# Altium footprint library Synthiam.PcbLib: 481 footprints (part 5 of 31)
Each footprint in its own frame and in the unit in brackets; x right, y up, seen from the top. Pads: shape width x height; smd on the part's side, far side on the other; paste and mask are expansions set on the pad; w line width, h text height; cw(c..) or ccw(c..) is an arc to the next point about the centre after c.
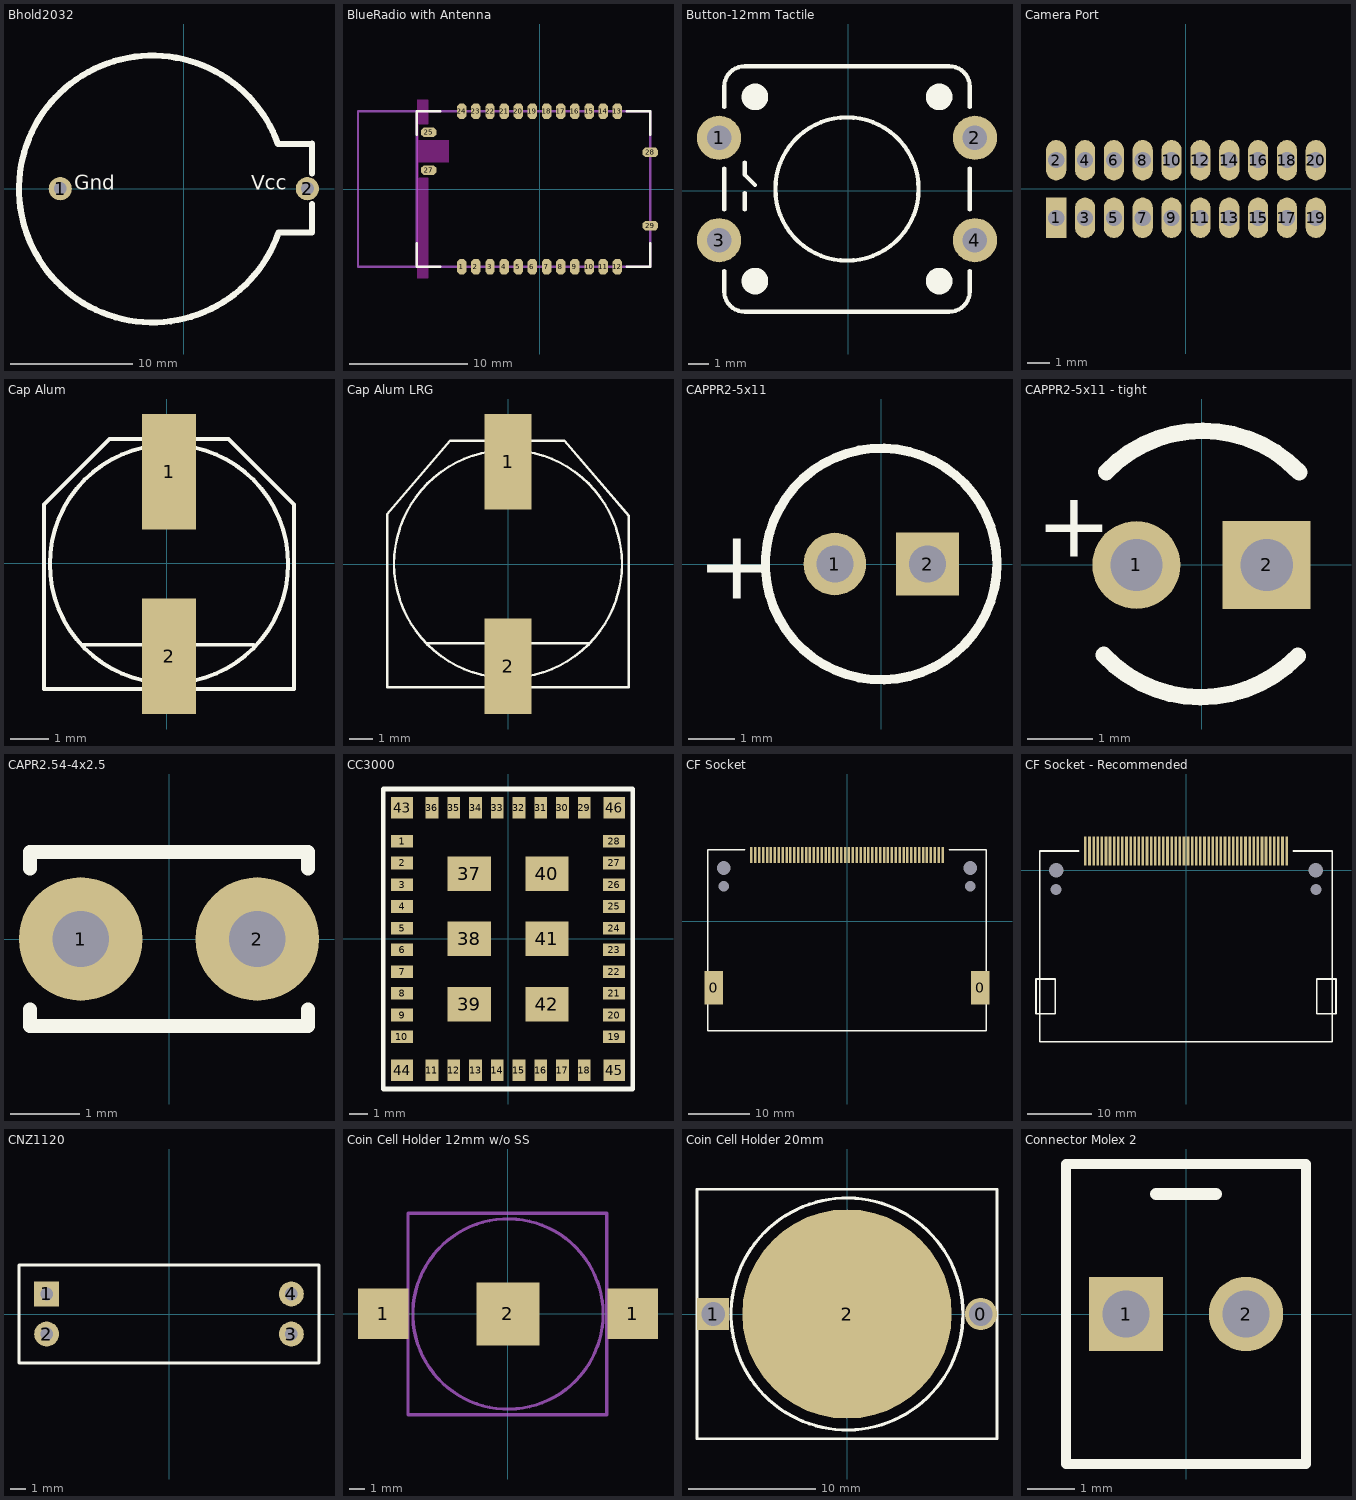
[diagram p4: the footprints below, top view; thin cyan lines are the x and y axes]

## Bhold2032 [mil] "CR2032 small footprint battery holder"
pads (2):
  round 75 hole 42: 1(-400,0) 2(400,0)
Top Overlay:
  lines w20: 306.64,-141.75 cw(c-101.63,-0.89) 305.04,144.54 415.11,145.55 414.99,50 ; 306.65,-141.3 414.97,-141.3 414.97,-50
  text "Gnd" at -355,-20 h80
  text "Vcc" at 218,-20 h80
3D body: height 285, standoff 1, extent -550,-430 420,430

## BlueRadio with Antenna [mm]
pads (28):
  oct 0.8x1.3 smd: 1(-6.6,-6.6) 2(-5.4,-6.6) 3(-4.2,-6.6) 4(-3,-6.6) 5(-1.8,-6.6) 6(-0.6,-6.6) 7(0.6,-6.6) 8(1.8,-6.6) 9(3,-6.6) 10(4.2,-6.6) 11(5.4,-6.6) 12(6.6,-6.6) 13(6.6,6.6) 14(5.4,6.6) 15(4.2,6.6) 16(3,6.6) 17(1.8,6.6) 18(0.6,6.6) 19(-0.6,6.6) 20(-1.8,6.6) 21(-3,6.6) 22(-4.2,6.6) 23(-5.4,6.6) 24(-6.6,6.6)
  oct 1.3x0.8 smd: 25(-9.4,4.8) 27(-9.4,1.6) 28(9.4,3.1) 29(9.4,-3.1)
Top Overlay:
  lines w0.203: -10.402,-4.6 -10.402,-6.6 -8.402,-6.6 ; -10.402,4.6 -10.402,6.6 -8.402,6.6 ; 7.4,-6.6 9.4,-6.6 9.4,-4.6 ; 7.4,6.6 9.4,6.6 9.4,4.6
Keep-Out Layer:
  rectangle: -10.4,-7.6 -9.4,0.96
  rectangle: -10.4,1 -10.281,5.415
  rectangle: -10.4,5.474 -9.4,7.6
  rectangle: -10.4,2.251 -7.7,4.176
Mechanical 1:
  lines w0.203: -10.4,-6.6 -10.4,6.6 ; -15.4,-6.6 9.4,-6.6 9.4,6.6 -15.4,6.6 -15.4,-6.6

## Button-12mm Tactile [mil]
height 275.59
pads (4):
  round 85 hole 47.24: 1(-248.16,101.45) 2(243.96,101.45) 3(-248.16,-95.41) 4(243.96,-95.41)
Top Overlay:
  circle w8: c-2.1,3.02 r137.79
  circle w27.56: c175.06,-174.15 r11.81
  circle w27.56: c-179.27,-174.15 r11.81
  circle w27.56: c-179.27,180.19 r11.81
  circle w27.56: c175.06,180.19 r11.81
  lines w8: -238.32,-154.46 -238.32,-193.83 ccw(c-198.95,-193.83) -198.95,-233.2 194.75,-233.2 ccw(c194.75,-193.83) 234.12,-193.83 234.12,-154.46 ; -238.32,-36.35 -238.32,42.39 ; -238.32,160.5 -238.32,199.87 cw(c-198.95,199.87) -198.95,239.24 194.75,239.24 cw(c194.75,199.87) 234.12,199.87 234.12,160.5 ; -198.95,-36.35 -198.95,-4.85 ; -198.95,54.2 -198.95,30.58 -179.27,10.89 ; 234.12,-36.35 234.12,42.39

## Camera Port [mil]
pads (20):
  rect 35x70 hole 28: 1(-225,-50)
  oval 35x70 hole 28: 2(-225,50) 3(-175,-50) 4(-175,50) 5(-125,-50) 6(-125,50) 7(-75,-50) 8(-75,50) 9(-25,-50) 10(-25,50) 11(25,-50) 12(25,50) 13(75,-50) 14(75,50) 15(125,-50) 16(125,50) 17(175,-50) 18(175,50) 19(225,-50) 20(225,50)

## Cap Alum [mm] "330uF or 220uF 6.3V SMD Aluminum Cap"
height 7.87
pads (2):
  rect 1.4x3 smd: 1(0.06,2.381) 2(0.06,-2.419)
Top Overlay:
  circle w0.102: c0.06,-0.019 r3.1
  lines w0.102: -2.19,-2.119 2.26,-2.119 ; -0.89,-3.269 -3.19,-3.269 ; -0.89,-2.969 cw(c0.06,-0.019) -0.89,2.931 ; -0.89,3.231 -1.49,3.231 ; 1.01,-3.269 3.31,-3.269 ; 1.01,-2.969 ccw(c0.06,-0.019) 1.01,2.931 ; 1.01,3.231 1.61,3.231 ; -3.19,-3.269 -3.19,1.531 ; -3.19,-3.269 3.31,-3.269 ; -3.19,-3.269 -3.19,1.531 ; -3.19,1.531 -1.49,3.231 ; -3.19,1.531 -1.49,3.231 ; -1.49,3.231 1.61,3.231 ; 1.61,3.231 3.31,1.531 ; 1.61,3.231 3.31,1.531 ; 3.31,-3.269 3.31,1.531 ; 3.31,-3.269 3.31,1.531

## Cap Alum LRG [mm] "1000uF or 1500uF SMD Aluminum Capacitor"
height 12
pads (2):
  rect 2x4.1 smd: 1(0,4.4) 2(0,-4.4)
Top Overlay:
  circle w0.102: c0,0 r4.9
  lines w0.102: -3.5,-3.4 3.5,-3.4 ; -5.2,-5.3 5.2,-5.3 5.2,2.067 2.429,5.3 -2.486,5.3 -5.2,2.133 -5.2,-5.3

## CAPPR2-5x11 [mm] "Capacitor, Electrolytic, Radial; Body 5 x 11 mm (Dia.xH typ); Pin Spacing 2 mm (typ)"
height 12
pads (2):
  round 1.35 hole 0.8: 1(-1,0)
  rect 1.35x1.35 hole 0.8: 2(1,0)
Top Overlay:
  circle w0.2: c0,0 r2.5
  text "+" at -3.975,-0.75 h1.5

## CAPPR2-5x11 - tight [mm] "Capacitor, Electrolytic, Radial; Body 5 x 11 mm (Dia.xH typ); Pin Spacing 2 mm (typ)"
height 12
pads (2):
  round 1.35 hole 0.8: 1(-1,0)
  rect 1.35x1.35 hole 0.8: 2(1,0)
Top Overlay:
  lines w0.254: -1.502,-1.382 ccw(c-0.007,0.018) 1.473,-1.397 ; -1.465,1.426 cw(c0.015,0.011) 1.499,1.422
  text "+" at -2.54,0.127 h1.02

## CAPR2.54-4x2.5 [mil] "Capacitor, Ceramic, Thru-Hole, Dipped Radial; Body 4 x 2.5 mm (WxT) Pin Spacing 2.54 mm (typ)"
height 181.1
pads (2):
  round 70 hole 32: 1(-50,0) 2(50,0)
Top Overlay:
  lines w7.87: -78.74,-39.96 -78.74,-49.21 78.74,-49.21 78.74,-39.96 ; -78.74,39.96 -78.74,49.21 78.74,49.21 78.74,39.96

## CC3000 [mm] "Texas Instruments WiFi Module"
pads (46):
  rect 1.2x0.7 smd: 1(-5.853,5.401) 2(-5.853,4.197) 3(-5.853,2.997) 4(-5.853,1.797) 5(-5.853,0.597) 6(-5.853,-0.603) 7(-5.853,-1.803) 8(-5.853,-3.003) 9(-5.853,-4.203) 10(-5.857,-5.401) 19(5.853,-5.401) 20(5.857,-4.203) 21(5.857,-3.003) 22(5.857,-1.803) 23(5.857,-0.603) 24(5.857,0.597) 25(5.857,1.797) 26(5.857,2.997) 27(5.857,4.197) 28(5.857,5.401)
  rect 0.7x1.2 smd: 11(-4.201,-7.253) 12(-2.997,-7.253) 13(-1.797,-7.253) 14(-0.597,-7.253) 15(0.603,-7.253) 16(1.803,-7.253) 17(3.003,-7.253) 18(4.201,-7.257) 29(4.201,7.243) 30(3.003,7.247) 31(1.803,7.247) 32(0.603,7.247) 33(-0.597,7.247) 34(-1.797,7.247) 35(-2.997,7.247) 36(-4.201,7.247)
  rect 2.4x1.9 smd: 37(-2.15,3.6) 38(-2.15,0) 39(-2.15,-3.6) 40(2.15,3.6) 41(2.15,0) 42(2.15,-3.6)
  rect 1.2x1.2 smd: 43(-5.855,7.247) 44(-5.855,-7.253) 45(5.857,-7.255) 46(5.857,7.245)
Top Overlay:
  lines w0.254: -6.89,8.28 -6.89,-8.285 6.875,-8.285 ; -6.88,8.28 6.885,8.28 6.885,-8.27

## CF Socket [mil]
pads (56):
  rect 118x213 smd: 0(-854.5,-425.5) 0(854.5,-425.5)
  round 0 hole 67: 0(-790.5,224.5) 0(790.5,224.5)
  round 0 hole 87: 0(-790.5,342.5) 0(790.5,342.5)
  rect 16x100 smd: 1(-612.5,425.5) 2(-562.5,425.5) 3(-512.5,425.5) 4(-462.5,425.5) 5(-412.5,425.5) 6(-362.5,425.5) 7(-312.5,425.5) 8(-262.5,425.5) 9(-212.5,425.5) 10(-162.5,425.5) 11(-112.5,425.5) 12(-62.5,425.5) 13(-12.5,425.5) 14(37.5,425.5) 15(87.5,425.5) 16(137.5,425.5) 17(187.5,425.5) 18(237.5,425.5) 19(287.5,425.5) 20(337.5,425.5) 21(387.5,425.5) 22(437.5,425.5) 23(487.5,425.5) 24(537.5,425.5) 25(587.5,425.5) 26(-587.5,425.5) 27(-537.5,425.5) 28(-487.5,425.5) 29(-437.5,425.5) 30(-387.5,425.5) 31(-337.5,425.5) 32(-287.5,425.5) 33(-237.5,425.5) 34(-187.5,425.5) 35(-137.5,425.5) 36(-87.5,425.5) 37(-37.5,425.5) 38(12.5,425.5) 39(62.5,425.5) 40(112.5,425.5) 41(162.5,425.5) 42(212.5,425.5) 43(262.5,425.5) 44(312.5,425.5) 45(362.5,425.5) 46(412.5,425.5) 47(462.5,425.5) 48(512.5,425.5) 49(562.5,425.5) 50(612.5,425.5)
Top Overlay:
  lines w10: -655,460.5 -891.5,460.5 -891.5,-700.5 891.5,-700.5 891.5,460.5 655,460.5

## CF Socket - Recommended [mil]
pads (54):
  round 0 hole 67: 0(-790.5,-118) 0(790.5,-118)
  round 0 hole 87: 0(-790.5,0) 0(790.5,0)
  rect 16x177 smd: 1(-612.5,118) 2(-587.5,118) 3(-562.5,118) 4(-537.5,118) 5(-512.5,118) 6(-487.5,118) 7(-462.5,118) 8(-437.5,118) 9(-412.5,118) 10(-387.5,118) 11(-362.5,118) 12(-337.5,118) 13(-312.5,118) 14(-287.5,118) 15(-262.5,118) 16(-237.5,118) 17(-212.5,118) 18(-187.5,118) 19(-162.5,118) 20(-137.5,118) 21(-112.5,118) 22(-87.5,118) 23(-62.5,118) 24(-37.5,118) 25(-12.5,118) 26(12.5,118) 27(37.5,118) 28(62.5,118) 29(87.5,118) 30(112.5,118) 31(137.5,118) 32(162.5,118) 33(187.5,118) 34(212.5,118) 35(237.5,118) 36(262.5,118) 37(287.5,118) 38(312.5,118) 39(337.5,118) 40(362.5,118) 41(387.5,118) 42(412.5,118) 43(437.5,118) 44(462.5,118) 45(487.5,118) 46(512.5,118) 47(537.5,118) 48(562.5,118) 49(587.5,118) 50(612.5,118)
Top Overlay:
  lines w10: -655,118 -891.5,118 -891.5,-1043 891.5,-1043 891.5,118 655,118 ; -913.5,-874.5 -795.5,-874.5 -795.5,-661.5 -913.5,-661.5 -913.5,-874.5 ; 795.5,-874.5 913.5,-874.5 913.5,-661.5 795.5,-661.5 795.5,-874.5

## CNZ1120 [mil]
pads (4):
  rect 62x62 hole 31.5: 1(-305.12,50)
  round 62 hole 31.5: 2(-305.12,-50) 3(305.12,-50) 4(305.12,50)
Top Overlay:
  lines w8: -374.02,-122.05 374.02,-122.05 374.02,122.05 -374.02,122.05 -374.02,-122.05
  text "." at -358,90 h80

## Coin Cell Holder 12mm w/o SS [mil]
pads (3):
  rect 125x125 smd: 1(-309.9,0) 1(309.9,0)
  rect 156x156 smd: 2(-0.1,0)
Mechanical 1:
  circle w8: c-0.1,-0.2 r236.22
  lines w8: -248.1,-250.19 244.9,-250.19 244.9,249.8 -248.1,249.8 -248.1,-250.19

## Coin Cell Holder 20mm [mil]
pads (3):
  round 100 hole 73: 0(415.5,0)
  rect 100x100 hole 73: 1(-415.5,0)
  round 650 smd: 2(0,0)
Top Overlay:
  circle w10: c0,0 r360
  lines w8: -465.5,-387.5 -465.5,387.5 465.5,387.5 465.5,-387.5 -465.5,-387.5

## Connector Molex 2 [mil]
pads (2):
  rect 62x62 hole 39.4: 1(-50,0)
  round 62 hole 39.4: 2(50,0)
Top Overlay:
  lines w8: -100,-125 100,-125 100,125 -100,125 -100,-125
  lines w10: -25,100 25,100